# EAGLE library part LM3S5749 (library Custom)
SPMM147_lm3s5749_ra0_lqfp_v1p0 edit this description Auto generated by make-symbol-device-package-bsdl_edited.ulp Rev. 42 Source: SPMM147_lm3s5749_ra0_lqfp_v1p0.bsdl
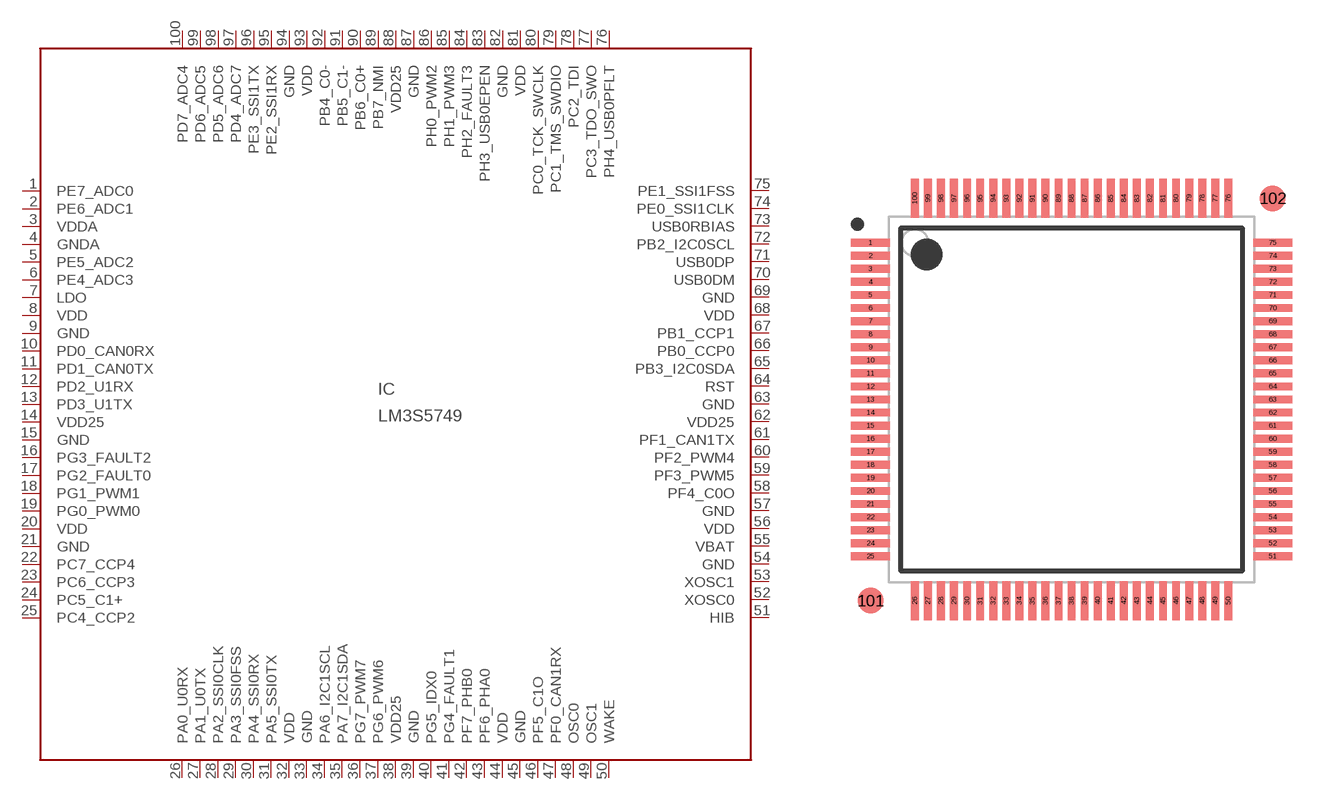
[diagram p1: symbol with the pads of LQFP-100; footprint LQFP-100]

Designator prefix IC

## LM3S5749  [LQFP-100]
1  PE7_ADC0
2  PE6_ADC1
3  VDDA  pwr
4  GNDA  pwr
5  PE5_ADC2
6  PE4_ADC3
7  LDO  pas
8  VDD  pwr
9  GND  pwr
10  PD0_CAN0RX
11  PD1_CAN0TX
12  PD2_U1RX
13  PD3_U1TX
14  VDD25  pwr
15  GND  pwr
16  PG3_FAULT2
17  PG2_FAULT0
18  PG1_PWM1
19  PG0_PWM0
20  VDD  pwr
21  GND  pwr
22  PC7_CCP4
23  PC6_CCP3
24  PC5_C1+
25  PC4_CCP2
26  PA0_U0RX
27  PA1_U0TX
28  PA2_SSI0CLK
29  PA3_SSI0FSS
30  PA4_SSI0RX
31  PA5_SSI0TX
32  VDD  pwr
33  GND  pwr
34  PA6_I2C1SCL
35  PA7_I2C1SDA
36  PG7_PWM7
37  PG6_PWM6
38  VDD25  pwr
39  GND  pwr
40  PG5_IDX0
41  PG4_FAULT1
42  PF7_PHB0
43  PF6_PHA0
44  VDD  pwr
45  GND  pwr
46  PF5_C1O
47  PF0_CAN1RX
48  OSC0  pas
49  OSC1  pas
50  WAKE  pas
51  HIB  pas
52  XOSC0  pas
53  XOSC1  pas
54  GND  pwr
55  VBAT  pas
56  VDD  pwr
57  GND  pwr
58  PF4_C0O
59  PF3_PWM5
60  PF2_PWM4
61  PF1_CAN1TX
62  VDD25  pwr
63  GND  pwr
64  RST  pas
65  PB3_I2C0SDA
66  PB0_CCP0
67  PB1_CCP1
68  VDD  pwr
69  GND  pwr
70  USB0DM  pas
71  USB0DP  pas
72  PB2_I2C0SCL
73  USB0RBIAS  pas
74  PE0_SSI1CLK
75  PE1_SSI1FSS
76  PH4_USB0PFLT
77  PC3_TDO_SWO  out
78  PC2_TDI  in
79  PC1_TMS_SWDIO  in
80  PC0_TCK_SWCLK  in
81  VDD  pwr
82  GND  pwr
83  PH3_USB0EPEN
84  PH2_FAULT3
85  PH1_PWM3
86  PH0_PWM2
87  GND  pwr
88  VDD25  pwr
89  PB7_NMI
90  PB6_C0+
91  PB5_C1-
92  PB4_C0-
93  VDD  pwr
94  GND  pwr
95  PE2_SSI1RX
96  PE3_SSI1TX
97  PD4_ADC7
98  PD5_ADC6
99  PD6_ADC5
100  PD7_ADC4

## Footprint LQFP-100 (pad centres in mm)
PCB Libraries Package
smd 1.5 x 0.3: 1 -7.7,6; 2 -7.7,5.5; 3 -7.7,5; 4 -7.7,4.5; 5 -7.7,4; 6 -7.7,3.5; 7 -7.7,3; 8 -7.7,2.5; 9 -7.7,2; 10 -7.7,1.5; 11 -7.7,1; 12 -7.7,0.5; 13 -7.7,0; 14 -7.7,-0.5; 15 -7.7,-1; 16 -7.7,-1.5; 17 -7.7,-2; 18 -7.7,-2.5; 19 -7.7,-3; 20 -7.7,-3.5; 21 -7.7,-4; 22 -7.7,-4.5; 23 -7.7,-5; 24 -7.7,-5.5; 25 -7.7,-6; 51 7.7,-6; 52 7.7,-5.5; 53 7.7,-5; 54 7.7,-4.5; 55 7.7,-4; 56 7.7,-3.5; 57 7.7,-3; 58 7.7,-2.5; 59 7.7,-2; 60 7.7,-1.5; 61 7.7,-1; 62 7.7,-0.5; 63 7.7,0; 64 7.7,0.5; 65 7.7,1; 66 7.7,1.5; 67 7.7,2; 68 7.7,2.5; 69 7.7,3; 70 7.7,3.5; 71 7.7,4; 72 7.7,4.5; 73 7.7,5; 74 7.7,5.5; 75 7.7,6
smd 0.3 x 1.5: 26 -6,-7.7; 27 -5.5,-7.7; 28 -5,-7.7; 29 -4.5,-7.7; 30 -4,-7.7; 31 -3.5,-7.7; 32 -3,-7.7; 33 -2.5,-7.7; 34 -2,-7.7; 35 -1.5,-7.7; 36 -1,-7.7; 37 -0.5,-7.7; 38 0,-7.7; 39 0.5,-7.7; 40 1,-7.7; 41 1.5,-7.7; 42 2,-7.7; 43 2.5,-7.7; 44 3,-7.7; 45 3.5,-7.7; 46 4,-7.7; 47 4.5,-7.7; 48 5,-7.7; 49 5.5,-7.7; 50 6,-7.7; 76 6,7.7; 77 5.5,7.7; 78 5,7.7; 79 4.5,7.7; 80 4,7.7; 81 3.5,7.7; 82 3,7.7; 83 2.5,7.7; 84 2,7.7; 85 1.5,7.7; 86 1,7.7; 87 0.5,7.7; 88 0,7.7; 89 -0.5,7.7; 90 -1,7.7; 91 -1.5,7.7; 92 -2,7.7; 93 -2.5,7.7; 94 -3,7.7; 95 -3.5,7.7; 96 -4,7.7; 97 -4.5,7.7; 98 -5,7.7; 99 -5.5,7.7; 100 -6,7.7
smd 1 x 1: 101 -7.7,-7.7; 102 7.7,7.7